# Altium schematic symbol library Schlib1.SchLib: 2 symbols
Pins are listed as number, name and electrical type; pins without a type are passive.

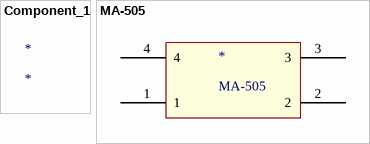
[diagram p0: symbols Component_1 to MA-505]

## Component_1
designator *

## MA-505
designator *
footprint CAPC15256X06N (Chip Capacitor, 2-Leads, Body 15.20x5.60mm, IPC Medium Density)
pins: 1, 2, 3, 4